# EAGLE library part TMP006 (library awqua_eagle_library)
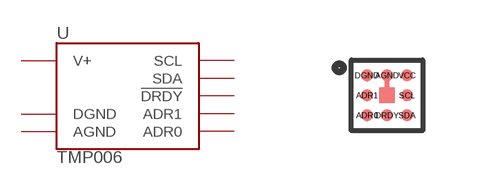
[diagram p24: symbol with the pads of TMP006; footprint TMP006]

Designator prefix -

## TMP006  [TMP006]
ADR0  ADR0
ADR1  ADR1
AGND  AGND
DGND  DGND
DRDY  !DRDY
SCL  SCL
SDA  SDA
VCC  V+

## Footprint TMP006 (pad centres in mm)
smd 0.305 x 0.305: ADR0 -0.5,-0.5; ADR1 -0.5,0; AGND 0,0.5; DGND -0.5,0.5; DRDY 0,-0.5; SCL 0.5,0; SDA 0.5,-0.5; VCC 0.5,0.5